# EAGLE library part 658460621040 (library WR-BTB)
WR-BTB Board to Board Characteristics Insulator flammability rating: UL94 V-0 Defined board to board distance from 5.00 mm up to 16.00 mm Available pin-counts: 64 pins (1.0 mm version) / 40, 80 or 100 pins (0.8 mm version) Contact plating: selective gold Operating temperature: -55 °C up to +85 °C Quality class: 30 mating cycles Contact resistance: 30 mΩ Working Voltage: 100 V (AC) UL approval: E323964 Applications Board-to-board connection for secure and fast data connections Defined PCB spacing In conjunction with SMT spacers or threaded spacers, a stable connection of stacked PCBs. <https://www.we-online.com/components/media/o790799v209%20WR-BTB_Gruppe.jpg> Details see: www.we-online.com/en/components/products/WR_BTB <www.we-online.com/catalog/WR_BTB/?utm_source=eagle_model&utm_medium=description_link&utm_campaign=eisos_eagle> Updated by Ella 2025-05-14 2025(C) Würth Elektronik
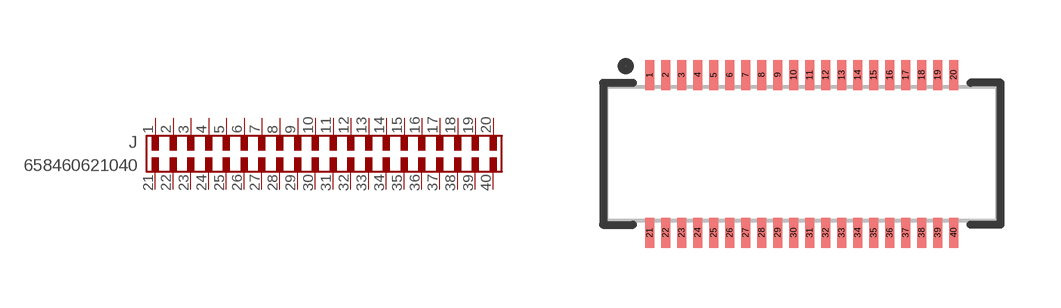
[diagram p18: symbol with the pads of 658460621040; footprint 658460621040]

Designator prefix J

## 658460621040 (DATASHEET-URL: https://www.we-online.com/redexpert/spec/658460621040?ae; GENDER: Plug; HEIGHT: 0.63mm; IR: 300mA; MOUNT: SMT; PACKAGING: Tape and Reel with Cap; PART-NUMBER: 658460621040; PINS: 40; PITCH: 0.4mm; TYPE: Vertical; VALUE: 658460621040)  [658460621040]
1  1  pas
2  2  pas
3  3  pas
4  4  pas
5  5  pas
6  6  pas
7  7  pas
8  8  pas
9  9  pas
10  10  pas
11  11  pas
12  12  pas
13  13  pas
14  14  pas
15  15  pas
16  16  pas
17  17  pas
18  18  pas
19  19  pas
20  20  pas
21  21  pas
22  22  pas
23  23  pas
24  24  pas
25  25  pas
26  26  pas
27  27  pas
28  28  pas
29  29  pas
30  30  pas
31  31  pas
32  32  pas
33  33  pas
34  34  pas
35  35  pas
36  36  pas
37  37  pas
38  38  pas
39  39  pas
40  40  pas

## Footprint 658460621040 (pad centres in mm)
WR-BTB Board to Board Pitch: 0.4mm, Plug, 40pins, SMT Height = 0.63mm
smd 0.23 x 0.75: 1 -3.8,1.975; 2 -3.4,1.975; 3 -3,1.975; 4 -2.6,1.975; 5 -2.2,1.975; 6 -1.8,1.975; 7 -1.4,1.975; 8 -1,1.975; 9 -0.6,1.975; 10 -0.2,1.975; 11 0.2,1.975; 12 0.6,1.975; 13 1,1.975; 14 1.4,1.975; 15 1.8,1.975; 16 2.2,1.975; 17 2.6,1.975; 18 3,1.975; 19 3.4,1.975; 20 3.8,1.975; 21 -3.8,-1.975; 22 -3.4,-1.975; 23 -3,-1.975; 24 -2.6,-1.975; 25 -2.2,-1.975; 26 -1.8,-1.975; 27 -1.4,-1.975; 28 -1,-1.975; 29 -0.6,-1.975; 30 -0.2,-1.975; 31 0.2,-1.975; 32 0.6,-1.975; 33 1,-1.975; 34 1.4,-1.975; 35 1.8,-1.975; 36 2.2,-1.975; 37 2.6,-1.975; 38 3,-1.975; 39 3.4,-1.975; 40 3.8,-1.975